# EAGLE library part MSP430GX52 (library Nick'sEagle)
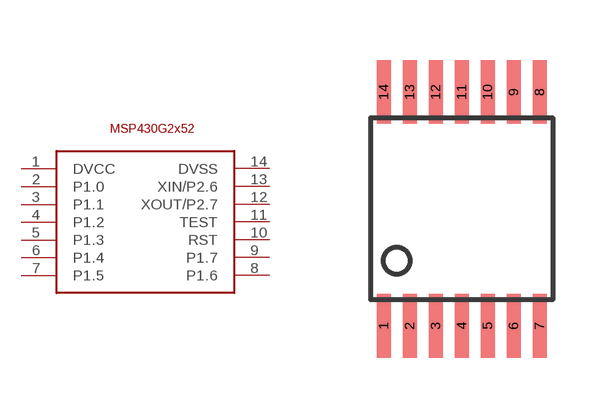
[diagram p4: symbol with the pads of PW14; footprint PW14]

Designator prefix -

## MSP430GX52  [PW14]
1  DVCC
2  P1.0
3  P1.1
4  P1.2
5  P1.3
6  P1.4
7  P1.5
8  P1.6
9  P1.7
10  RST
11  TEST
12  XOUT/P2.7
13  XIN/P2.6
14  DVSS

## Footprint PW14 (pad centres in mm)
smd 0.35 x 1.6: 1 -1.95,-2.925; 2 -1.3,-2.925; 3 -0.65,-2.925; 4 0,-2.925; 5 0.65,-2.925; 6 1.3,-2.925; 7 1.95,-2.925; 8 1.95,2.925; 9 1.3,2.925; 10 0.65,2.925; 11 0,2.925; 12 -0.65,2.925; 13 -1.3,2.925; 14 -1.95,2.925